# EAGLE library part 374380 (library con-erni)
FEMALE CONNECTOR
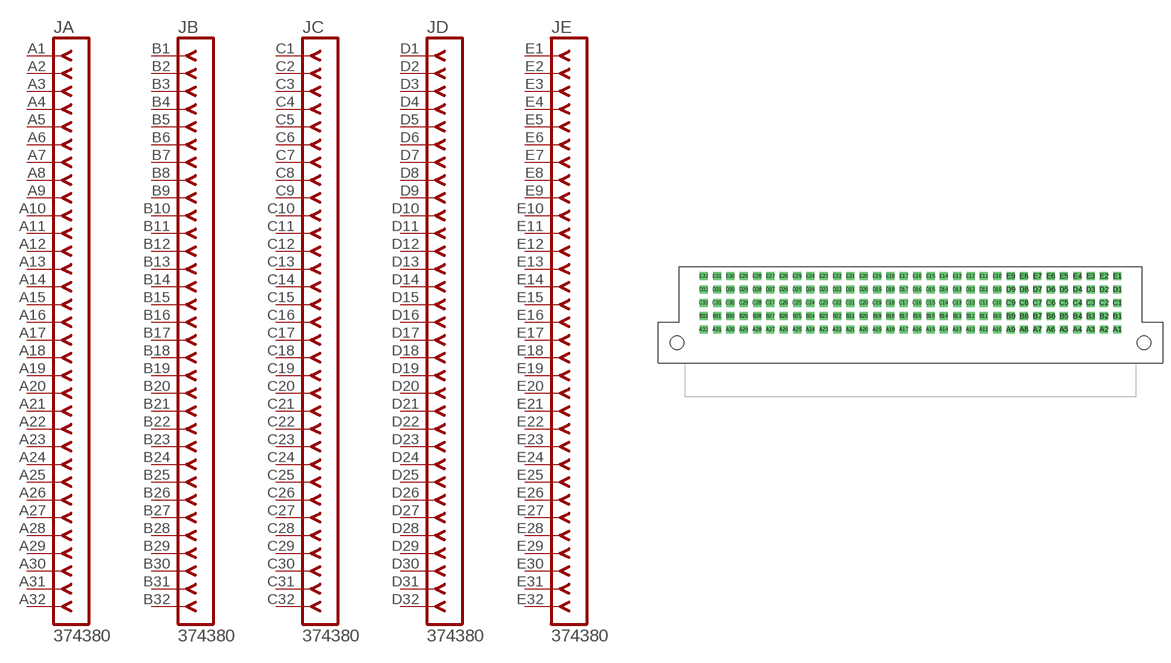
[diagram p1: symbol with the pads of 374380; footprint 374380]

Designator prefix J; gates A=FE32-1 B=FE32-1 C=FE32-1 D=FE32-1 E=FE32-1

## 374380  [374380]
A1  A:1  pas
A2  A:2  pas
A3  A:3  pas
A4  A:4  pas
A5  A:5  pas
A6  A:6  pas
A7  A:7  pas
A8  A:8  pas
A9  A:9  pas
A10  A:10  pas
A11  A:11  pas
A12  A:12  pas
A13  A:13  pas
A14  A:14  pas
A15  A:15  pas
A16  A:16  pas
A17  A:17  pas
A18  A:18  pas
A19  A:19  pas
A20  A:20  pas
A21  A:21  pas
A22  A:22  pas
A23  A:23  pas
A24  A:24  pas
A25  A:25  pas
A26  A:26  pas
A27  A:27  pas
A28  A:28  pas
A29  A:29  pas
A30  A:30  pas
A31  A:31  pas
A32  A:32  pas
B1  B:1  pas
B2  B:2  pas
B3  B:3  pas
B4  B:4  pas
B5  B:5  pas
B6  B:6  pas
B7  B:7  pas
B8  B:8  pas
B9  B:9  pas
B10  B:10  pas
B11  B:11  pas
B12  B:12  pas
B13  B:13  pas
B14  B:14  pas
B15  B:15  pas
B16  B:16  pas
B17  B:17  pas
B18  B:18  pas
B19  B:19  pas
B20  B:20  pas
B21  B:21  pas
B22  B:22  pas
B23  B:23  pas
B24  B:24  pas
B25  B:25  pas
B26  B:26  pas
B27  B:27  pas
B28  B:28  pas
B29  B:29  pas
B30  B:30  pas
B31  B:31  pas
B32  B:32  pas
C1  C:1  pas
C2  C:2  pas
C3  C:3  pas
C4  C:4  pas
C5  C:5  pas
C6  C:6  pas
C7  C:7  pas
C8  C:8  pas
C9  C:9  pas
C10  C:10  pas
C11  C:11  pas
C12  C:12  pas
C13  C:13  pas
C14  C:14  pas
C15  C:15  pas
C16  C:16  pas
C17  C:17  pas
C18  C:18  pas
C19  C:19  pas
C20  C:20  pas
C21  C:21  pas
C22  C:22  pas
C23  C:23  pas
C24  C:24  pas
C25  C:25  pas
C26  C:26  pas
C27  C:27  pas
C28  C:28  pas
C29  C:29  pas
C30  C:30  pas
C31  C:31  pas
C32  C:32  pas
D1  D:1  pas
D2  D:2  pas
D3  D:3  pas
D4  D:4  pas
D5  D:5  pas
D6  D:6  pas
D7  D:7  pas
D8  D:8  pas
D9  D:9  pas
D10  D:10  pas
D11  D:11  pas
D12  D:12  pas
D13  D:13  pas
D14  D:14  pas
D15  D:15  pas
D16  D:16  pas
D17  D:17  pas
D18  D:18  pas
D19  D:19  pas
D20  D:20  pas
D21  D:21  pas
D22  D:22  pas
D23  D:23  pas
D24  D:24  pas
D25  D:25  pas
D26  D:26  pas
D27  D:27  pas
D28  D:28  pas
D29  D:29  pas
D30  D:30  pas
D31  D:31  pas
D32  D:32  pas
E1  E:1  pas
E2  E:2  pas
E3  E:3  pas
E4  E:4  pas
E5  E:5  pas
E6  E:6  pas
E7  E:7  pas
E8  E:8  pas
E9  E:9  pas
E10  E:10  pas
E11  E:11  pas
E12  E:12  pas
E13  E:13  pas
E14  E:14  pas
E15  E:15  pas
E16  E:16  pas
E17  E:17  pas
E18  E:18  pas
E19  E:19  pas
E20  E:20  pas
E21  E:21  pas
E22  E:22  pas
E23  E:23  pas
E24  E:24  pas
E25  E:25  pas
E26  E:26  pas
E27  E:27  pas
E28  E:28  pas
E29  E:29  pas
E30  E:30  pas
E31  E:31  pas
E32  E:32  pas

## Footprint 374380 (pad centres in mm)
TE 160 Series
drill 1.016 square: A1 39.37,2.54; A2 36.83,2.54; A3 34.29,2.54; A4 31.75,2.54; A5 29.21,2.54; A6 26.67,2.54; A7 24.13,2.54; A8 21.59,2.54; A9 19.05,2.54; A10 16.51,2.54; A11 13.97,2.54; A12 11.43,2.54; A13 8.89,2.54; A14 6.35,2.54; A15 3.81,2.54; A16 1.27,2.54; A17 -1.27,2.54; A18 -3.81,2.54; A19 -6.35,2.54; A20 -8.89,2.54; A21 -11.43,2.54; A22 -13.97,2.54; A23 -16.51,2.54; A24 -19.05,2.54; A25 -21.59,2.54; A26 -24.13,2.54; A27 -26.67,2.54; A28 -29.21,2.54; A29 -31.75,2.54; A30 -34.29,2.54; A31 -36.83,2.54; A32 -39.37,2.54; B1 39.37,5.08; B2 36.83,5.08; B3 34.29,5.08; B4 31.75,5.08; B5 29.21,5.08; B6 26.67,5.08; B7 24.13,5.08; B8 21.59,5.08; B9 19.05,5.08; B10 16.51,5.08; B11 13.97,5.08; B12 11.43,5.08; B13 8.89,5.08; B14 6.35,5.08; B15 3.81,5.08; B16 1.27,5.08; B17 -1.27,5.08; B18 -3.81,5.08; B19 -6.35,5.08; B20 -8.89,5.08; B21 -11.43,5.08; B22 -13.97,5.08; B23 -16.51,5.08; B24 -19.05,5.08; B25 -21.59,5.08; B26 -24.13,5.08; B27 -26.67,5.08; B28 -29.21,5.08; B29 -31.75,5.08; B30 -34.29,5.08; B31 -36.83,5.08; B32 -39.37,5.08; C1 39.37,7.62; C2 36.83,7.62; C3 34.29,7.62; C4 31.75,7.62; C5 29.21,7.62; C6 26.67,7.62; C7 24.13,7.62; C8 21.59,7.62; C9 19.05,7.62; C10 16.51,7.62; C11 13.97,7.62; C12 11.43,7.62; C13 8.89,7.62; C14 6.35,7.62; C15 3.81,7.62; C16 1.27,7.62; C17 -1.27,7.62; C18 -3.81,7.62; C19 -6.35,7.62; C20 -8.89,7.62; C21 -11.43,7.62; C22 -13.97,7.62; C23 -16.51,7.62; C24 -19.05,7.62; C25 -21.59,7.62; C26 -24.13,7.62; C27 -26.67,7.62; C28 -29.21,7.62; C29 -31.75,7.62; C30 -34.29,7.62; C31 -36.83,7.62; C32 -39.37,7.62; D1 39.37,10.16; D2 36.83,10.16; D3 34.29,10.16; D4 31.75,10.16; D5 29.21,10.16; D6 26.67,10.16; D7 24.13,10.16; D8 21.59,10.16; D9 19.05,10.16; D10 16.51,10.16; D11 13.97,10.16; D12 11.43,10.16; D13 8.89,10.16; D14 6.35,10.16; D15 3.81,10.16; D16 1.27,10.16; D17 -1.27,10.16; D18 -3.81,10.16; D19 -6.35,10.16; D20 -8.89,10.16; D21 -11.43,10.16; D22 -13.97,10.16; D23 -16.51,10.16; D24 -19.05,10.16; D25 -21.59,10.16; D26 -24.13,10.16; D27 -26.67,10.16; D28 -29.21,10.16; D29 -31.75,10.16; D30 -34.29,10.16; D31 -36.83,10.16; D32 -39.37,10.16; E1 39.37,12.7; E2 36.83,12.7; E3 34.29,12.7; E4 31.75,12.7; E5 29.21,12.7; E6 26.67,12.7; E7 24.13,12.7; E8 21.59,12.7; E9 19.05,12.7; E10 16.51,12.7; E11 13.97,12.7; E12 11.43,12.7; E13 8.89,12.7; E14 6.35,12.7; E15 3.81,12.7; E16 1.27,12.7; E17 -1.27,12.7; E18 -3.81,12.7; E19 -6.35,12.7; E20 -8.89,12.7; E21 -11.43,12.7; E22 -13.97,12.7; E23 -16.51,12.7; E24 -19.05,12.7; E25 -21.59,12.7; E26 -24.13,12.7; E27 -26.67,12.7; E28 -29.21,12.7; E29 -31.75,12.7; E30 -34.29,12.7; E31 -36.83,12.7; E32 -39.37,12.7
hole 2.5 at -44.45,0
hole 2.5 at 44.45,0